# EAGLE library part UDN2982A-T (library Allegro_By_element14_Batch_1)
8-Channel Source Drivers
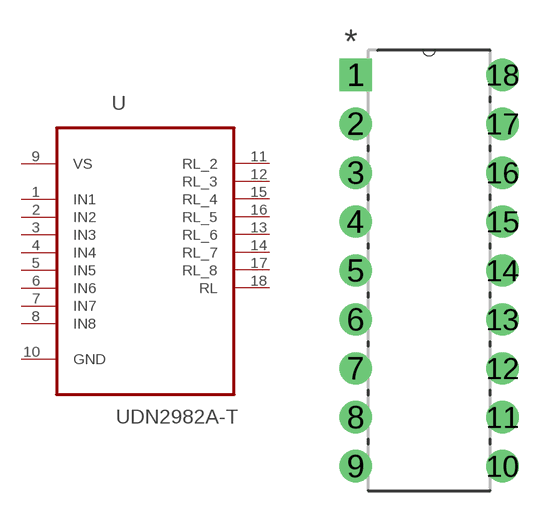
[diagram p39: symbol with the pads of DIP254P762X533-18; footprint DIP254P762X533-18]

Designator prefix U

## UDN2982A-T (MPN: UDN2982A-T; OC_FARNELL: 1521728; OC_NEWARK: 31K7842; PACKAGE: PDIP-18; SUPPLIER: ALLEGRO MICROSYSTEMS)  [DIP254P762X533-18]
1  IN1  in
2  IN2  in
3  IN3  in
4  IN4  in
5  IN5  in
6  IN6  in
7  IN7  in
8  IN8  in
9  VS  pwr
10  GND  pas
11  RL_2  pas
12  RL_3  pas
13  RL_6  pas
14  RL_7  pas
15  RL_4  pas
16  RL_5  pas
17  RL_8  pas
18  RL  pas

## Footprint DIP254P762X533-18 (pad centres in mm)
drill 1.118 square: 1 -7.62,20.32
drill 1.118: 2 -7.62,17.78; 3 -7.62,15.24; 4 -7.62,12.7; 5 -7.62,10.16; 6 -7.62,7.62; 7 -7.62,5.08; 8 -7.62,2.54; 9 -7.62,0; 10 0,0; 11 0,2.54; 12 0,5.08; 13 0,7.62; 14 0,10.16; 15 0,12.7; 16 0,15.24; 17 0,17.78; 18 0,20.32